# Altium footprint library SWMD_21DD_ LV_DR_Brush_V1.1.PcbLib: 21 footprints (part 2 of 2)
Each footprint in its own frame and in the unit in brackets; x right, y up, seen from the top. Pads: shape width x height; smd on the part's side, far side on the other; paste and mask are expansions set on the pad; w line width, h text height; cw(c..) or ccw(c..) is an arc to the next point about the centre after c.
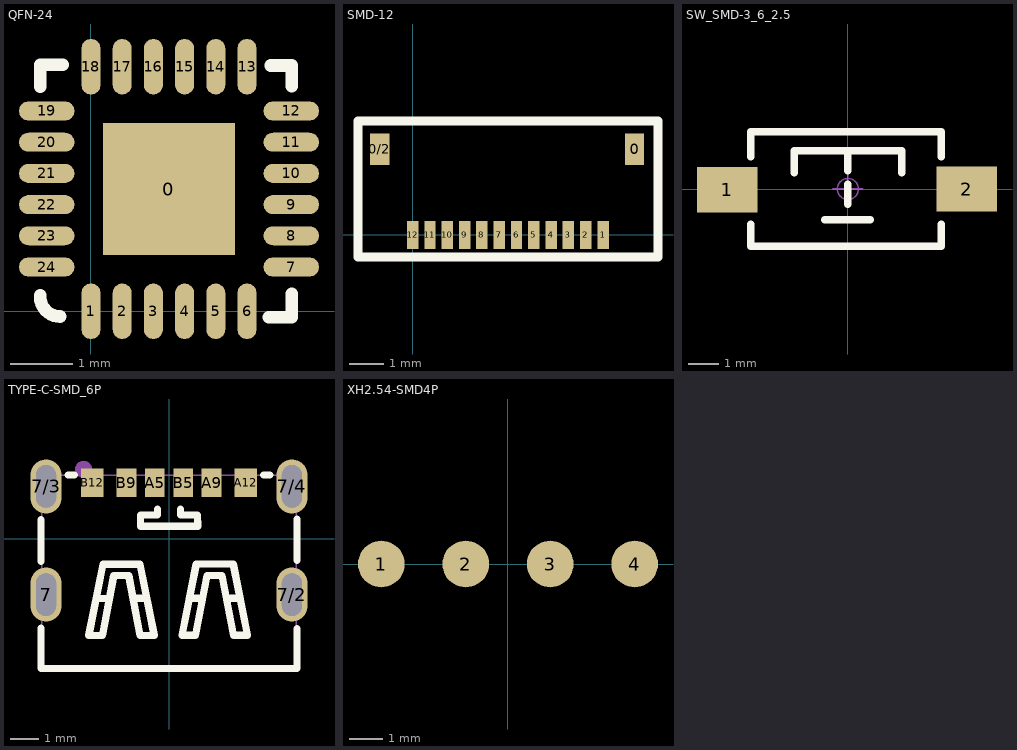
[diagram p1: the footprints below, top view; thin cyan lines are the x and y axes]

## QFN-24 [mil]
pads (25):
  rect 83x83 smd: 0(49.21,77.13)
  oval 12x35 smd: 1(0,0) 2(19.68,0) 3(39.37,0) 4(59.06,0) 5(78.74,0) 6(98.43,0) 13(98.43,154.26) 14(78.74,154.26) 15(59.06,154.26) 16(39.37,154.26) 17(19.68,154.26) 18(0,154.26)
  oval 35x12 smd: 7(126.34,27.92) 8(126.34,47.6) 9(126.34,67.29) 10(126.34,86.97) 11(126.34,106.66) 19(-27.92,126.34) 20(-27.92,106.66) 21(-27.92,86.97) 22(-27.92,67.29) 23(-27.92,47.6) 24(-27.92,27.92)
  oval 35x12.01 smd: 12(126.34,126.34)
Top Overlay:
  lines w8: -32.08,10 -32.08,9.17 ccw(c-19.58,9.17) -19.58,-3.33 ; -32.08,141.67 -32.08,155.42 -17.92,155.42 ; 112.08,-3.75 126.67,-3.75 126.67,10.83 ; 113.33,155 126.67,155 126.67,142.08

## SMD-12 [mil]
pads (14):
  rect 22x36 smd: 0(252.38,97.5) 0/2(-37.62,97.5)
  rect 13x32 smd: 1(216.53,0) 2(196.85,0) 3(177.16,0) 4(157.48,0) 5(137.79,0) 6(118.11,0) 7(98.42,0) 8(78.74,0) 9(59.05,0) 10(39.37,0) 11(19.68,0) 12(0,0)
Top Overlay:
  lines w10: -62.2,-25 279.04,-25 279.04,129.58 -62.2,129.58 -62.2,-25

## SW_SMD-3_6_2.5 [mm]
pads (2):
  rect 2x1.5 smd: 1(-3.996,-0.02) 2(3.937,0)
Top Overlay:
  lines w0.254: -3.212,-1.168 -3.212,-1.9 3.088,-1.9 3.088,-1.168 ; -3.212,1.067 -3.212,1.9 3.088,1.9 3.088,1.067 ; -1.778,0.533 -1.778,1.27 1.778,1.27 1.778,0.533 ; -0.762,-1.016 0.737,-1.016 ; 0,-0.508 0,0.152 ; 0,0.61 0,1.27
Mechanical 15:
  circle w0.05: c0,0 r0.35
  lines w0.05: -0.5,0 0.5,0 ; 0,-0.5 0,0.5

## TYPE-C-SMD_6P [mm]
pads (10):
  oval 1.1x1.9 hole 0.7 slot 1.5 at 90 deg: 7(-4.32,-1.963) 7/2(4.32,-1.963) 7/3(-4.32,1.838) 7/4(4.32,1.838)
  rect 0.7x1 smd paste-0.337 mask+0.051: A5(-0.5,1.963) A9(1.5,1.963) B5(0.5,1.963) B9(-1.5,1.963)
  rect 0.8x1 smd paste-0.387 mask+0.051: A12(2.7,1.963) B12(-2.7,1.963)
Top Overlay:
  lines w0.25: -4.501,-3.164 -4.501,-3.141 -4.501,-4.563 4.501,-4.563 4.501,-3.164 ; -4.5,-0.805 -4.5,0.638 -4.5,0.68 ; -3.541,2.238 -3.329,2.238 ; -0.4,1.038 -0.4,0.838 -1,0.838 -1,0.438 1.01,0.438 1,0.838 0.4,0.838 0.4,1.038 ; 3.329,2.238 3.541,2.238 ; 4.5,-0.762 4.5,0.688
  lines w0.254: -2.518,-2.095 -2.119,-2.095 ; -1.219,-2.095 -0.819,-2.095 ; 0.759,-2.09 1.158,-2.09 ; 2.058,-2.09 2.458,-2.09 ; -2.818,-3.396 -2.343,-3.396 -1.941,-1.295 -1.413,-1.295 -1.014,-3.396 -0.519,-3.396 -1.019,-0.894 -2.32,-0.894 -2.818,-3.396 ; 0.459,-3.391 0.934,-3.391 1.335,-1.29 1.864,-1.29 2.262,-3.391 2.758,-3.391 2.257,-0.889 0.957,-0.889 0.459,-3.391
Mechanical 15:
  circle w0.3: c-3,2.438 r0.15
  lines w0.051: -4.47,-4.562 4.47,-4.562 4.47,2.238 -4.47,2.238 -4.47,-4.562

## XH2.54-SMD4P [mm]
pads (4):
  round 1.4 smd: 1(-3.81,0) 2(-1.27,0) 3(1.27,0) 4(3.81,0)